# Altium schematic symbol library Schematic_Modules.SchLib: 3 symbols
Pins are listed as number, name and electrical type; pins without a type are passive.

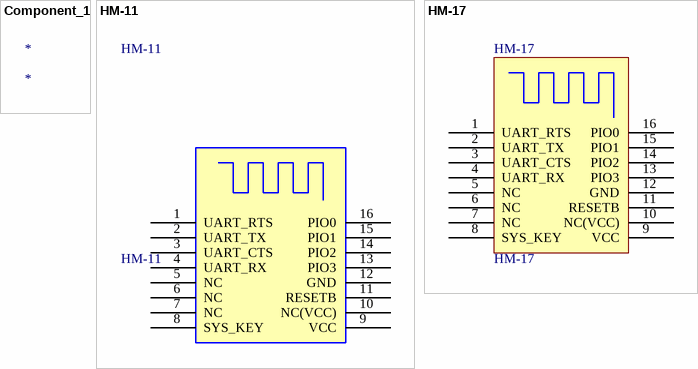
[diagram p0: symbols Component_1 to HM-17]

## Component_1
designator *

## HM-11
designator HM-11
BLE 4.0 Module; ComponentLink1Description: Module Pinout; ComponentLink1URL: http://wiki.seeedstudio.com/Bluetooth_V4.0_HM_11_BLE_Module/
footprint HM_05_06_07_11_13_17
pins: 1 UART_RTS, 2 UART_TX, 3 UART_CTS, 4 UART_RX, 5 NC, 6 NC, 7 NC, 8 SYS_KEY, 9 VCC, 10 NC(VCC), 11 RESETB, 12 GND, 13 PIO3, 14 PIO2, 15 PIO1, 16 PIO0

## HM-17
designator HM-17
BLE 4.0 Module; ComponentLink1Description: Module Pinout; ComponentLink1URL: http://wiki.seeedstudio.com/Bluetooth_V4.0_HM_11_BLE_Module/
footprint HM_05_06_07_11_13_17
pins: 1 UART_RTS, 2 UART_TX, 3 UART_CTS, 4 UART_RX, 5 NC, 6 NC, 7 NC, 8 SYS_KEY, 9 VCC, 10 NC(VCC), 11 RESETB, 12 GND, 13 PIO3, 14 PIO2, 15 PIO1, 16 PIO0